# EAGLE library part ATTINY24 (library common)
Atmel ATtiny24/44/84 Microcontroller
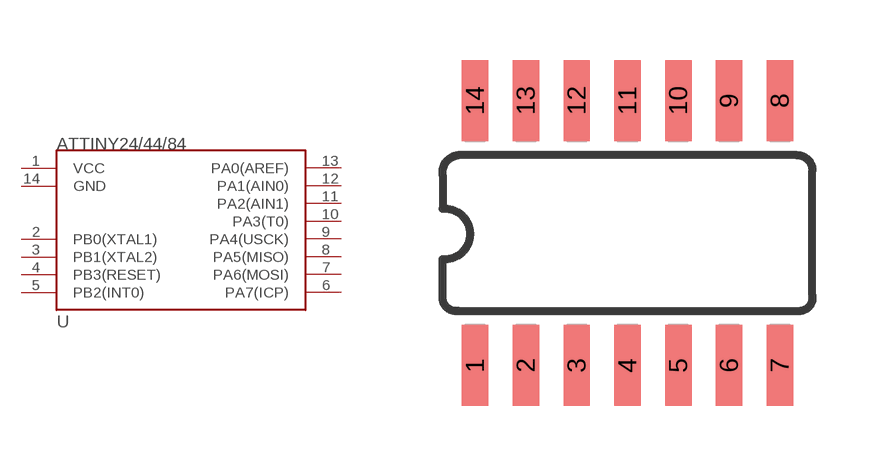
[diagram p13: symbol with the pads of SOIC-14; footprint SOIC-14]

Designator prefix -

## ATTINY24  [SOIC-14]
1  VCC
2  PB0(XTAL1)
3  PB1(XTAL2)
4  PB3(RESET)
5  PB2(INT0)
6  PA7(ICP)
7  PA6(MOSI)
8  PA5(MISO)
9  PA4(USCK)
10  PA3(T0)
11  PA2(AIN1)
12  PA1(AIN0)
13  PA0(AREF)
14  GND

## Footprint SOIC-14 (pad centres in mm)
smd 0.66 x 2.032: 1 -4.445,-3.315; 2 -3.175,-3.315; 3 -1.905,-3.315; 4 -0.635,-3.315; 5 0.635,-3.315; 6 1.905,-3.315; 7 3.175,-3.315; 8 3.175,3.315; 9 1.905,3.315; 10 0.635,3.315; 11 -0.635,3.315; 12 -1.905,3.315; 13 -3.175,3.315; 14 -4.445,3.315